# Altium schematic symbol library Schlib1.SchLib: 49 symbols
Pins are listed as number, name and electrical type; pins without a type are passive.

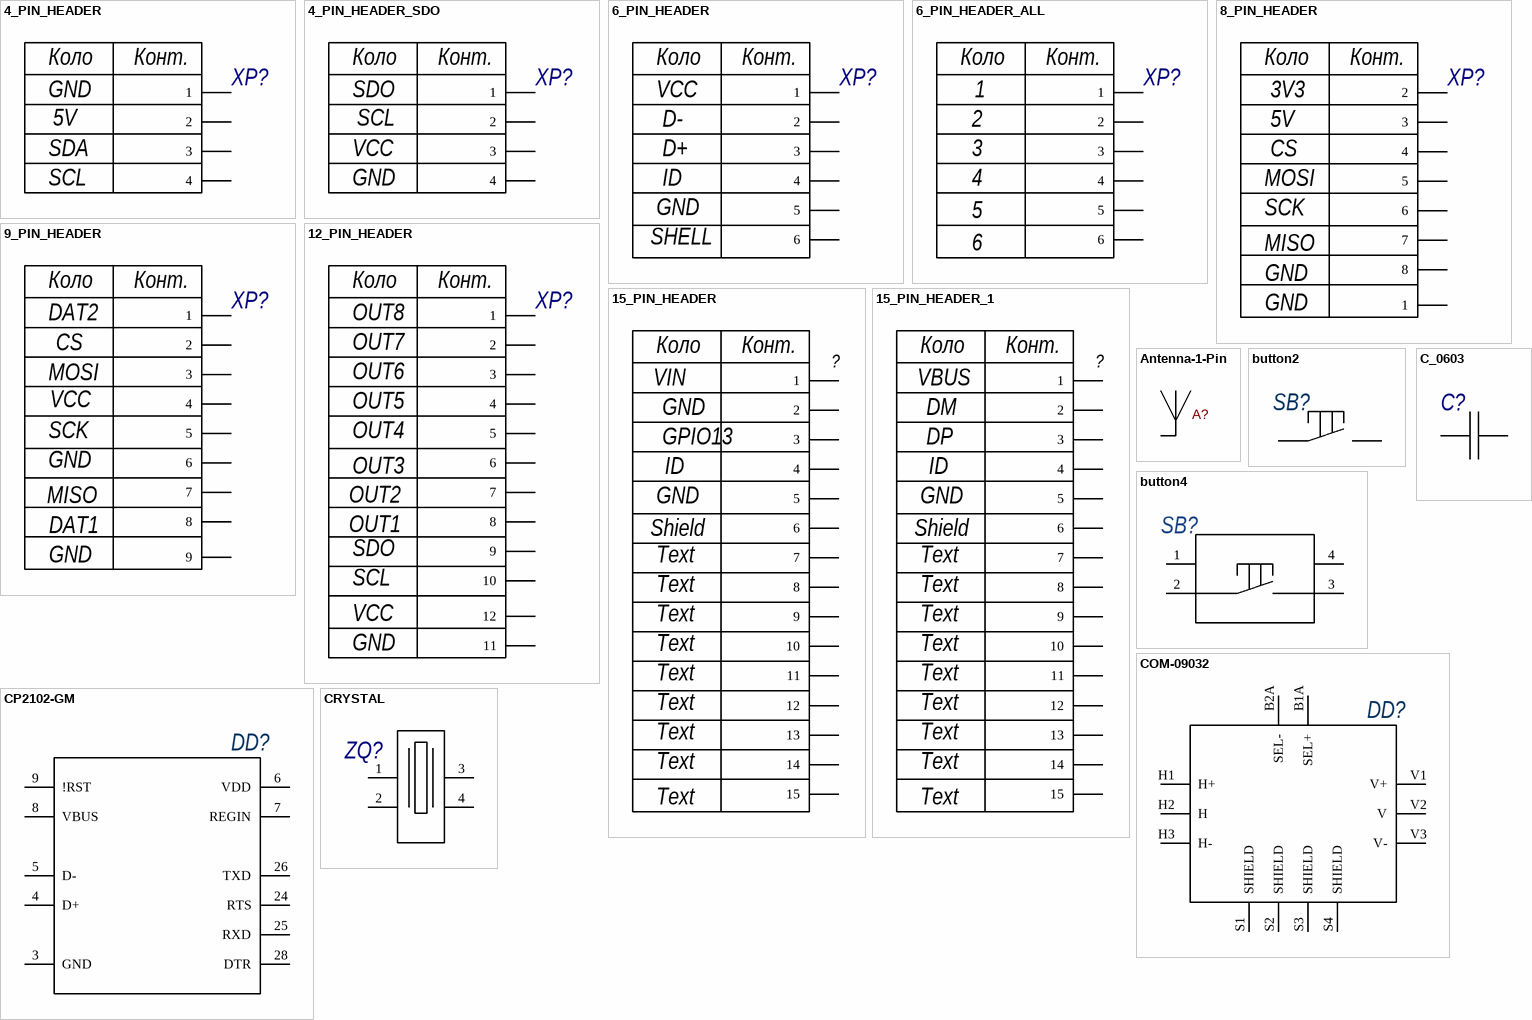
[diagram p0: symbols 4_PIN_HEADER to CRYSTAL]

## 4_PIN_HEADER
designator XP?, comment TS-104-T-A Samtec Inc.  (value not drawn)
CN3; Name: TS-104-T-A; Manufacturer: Samtec Inc.
footprint xp4
pins: 1, 2, 3, 4
text: Коло; Конт.; GND; 5V; SDA; SCL

## 4_PIN_HEADER_SDO
designator XP?, comment TS-104-T-A Samtec Inc.  (value not drawn)
CN3; Name: TS-104-T-A; Manufacturer: Samtec Inc.
footprint xp4
pins: 1, 2, 3, 4
text: Коло; Конт.; SDO; SCL; VCC; GND

## 6_PIN_HEADER
designator XP?, comment TD-103-T-A Samtec Inc.  (value not drawn)
5075BMR-05-SM; Name: TD-103-T-A; Manufacturer: Samtec Inc.
footprint xp6
pins: 1, 2, 3, 4, 5, 6
text: Коло; Конт.; VCC; D-; D+; ID; GND; SHELL

## 6_PIN_HEADER_ALL
designator XP?, comment TD-103-T-A Samtec Inc.  (value not drawn)
Header6; Name: TD-103-T-A; Manufacturer: Samtec Inc.
footprint xp6
pins: 1, 2, 3, 4, 5, 6
text: Коло; Конт.

## 8_PIN_HEADER
designator XP?, comment TS-111-T-AA Samtec Inc.  (value not drawn)
475900001; Name: TS-111-T-AA; Manufacturer: Samtec Inc.
footprint xp8 (Footprint not found)
pins: 1, 2, 3, 4, 5, 6, 7, 8
text: Коло; Конт.; 3V3; 5V; CS; MOSI; SCK; MISO; GND

## 9_PIN_HEADER
designator XP?, comment TS-111-T-AA Samtec Inc.  (value not drawn)
475900001; Name: TS-111-T-AA; Manufacturer: Samtec Inc.
footprint xp9 (Footprint not found)
pins: 1, 2, 3, 4, 5, 6, 7, 8, 9
text: Коло; Конт.; DAT2; CS; MOSI; VCC; SCK; GND; MISO; DAT1

## 12_PIN_HEADER
designator XP?, comment TS-111-T-AA Samtec Inc.  (value not drawn)
475900001; Name: TS-111-T-AA; Manufacturer: Samtec Inc.
footprint xp12 (Footprint not found)
pins: 1, 2, 3, 4, 5, 6, 7, 8, 9, 10, 11, 12
text: Коло; Конт.; OUT8; OUT7; OUT6; OUT5; OUT4; OUT3; OUT2; OUT1; SDO; SCL; VCC; GND

## 15_PIN_HEADER
designator ?, comment * *  (value not drawn)
Name: *; Manufacturer: *
pins: 1, 2, 3, 4, 5, 6, 7, 8, 9, 10, 11, 12, 13, 14, 15
text: Коло; Конт.; VIN; GND; GPIO13; ID; Shield; Text

## 15_PIN_HEADER_1
designator ?, comment * *  (value not drawn)
Name: *; Manufacturer: *
pins: 1, 2, 3, 4, 5, 6, 7, 8, 9, 10, 11, 12, 13, 14, 15
text: Коло; Конт.; VBUS; DM; DP; ID; GND; Shield; Text

## Antenna-1-Pin
designator A?  (net tie)
SMA, Through-Hole
footprint PCB_ANT
pins: 1

## button2
designator SB?
Manufacturer: Würth Elektronik; Name: 430182043816
footprint button2
pins: 1, 2

## button4
designator SB?
Manufacturer: Würth Elektronik; Name: 430182043816
footprint button4
pins: 1, 2, 3, 4

## C_0603
designator C?
Manufacturer: TDK Corporation; Temp_Coef: X7R; Voltage: 50 В; Tolerance: 10%; Package: 0603
footprint C_0603
pins: 1, 2

## COM-09032
designator DD?, comment 1568-09032-ND  (value not drawn)
Thumb Joystick; Manufacturer: SparkFun Electronics; Part Number: COM-09032; Availability: Unavailable
footprint XDCR_COM-09032
pins: B1A SEL+, B2A SEL-, H1 H+, H2 H, H3 H-, S1 SHIELD, S2 SHIELD, S3 SHIELD, S4 SHIELD, V1 V+, V2 V, V3 V-

## CP2102-GM
designator DD?  (value not drawn)
USB 2.0 to UART, 28-QFN (5x5); Manufacturer: Silicon Labs; Package: QFN-28 Silicon Labs; Part Number: CP2102-GM
footprint QFN-28_5x5mm
pins: 3 GND, 4 D+, 5 D-, 6 VDD, 7 REGIN, 8 VBUS, 9 !RST, 24 RTS, 25 RXD, 26 TXD, 28 DTR

## CRYSTAL
designator ZQ?
Manufacturer: Abracon LLC; Name: ABS25-32.768KHZ-6-T
footprint O2_768KHZ
pins: 1, 2, 3, 4

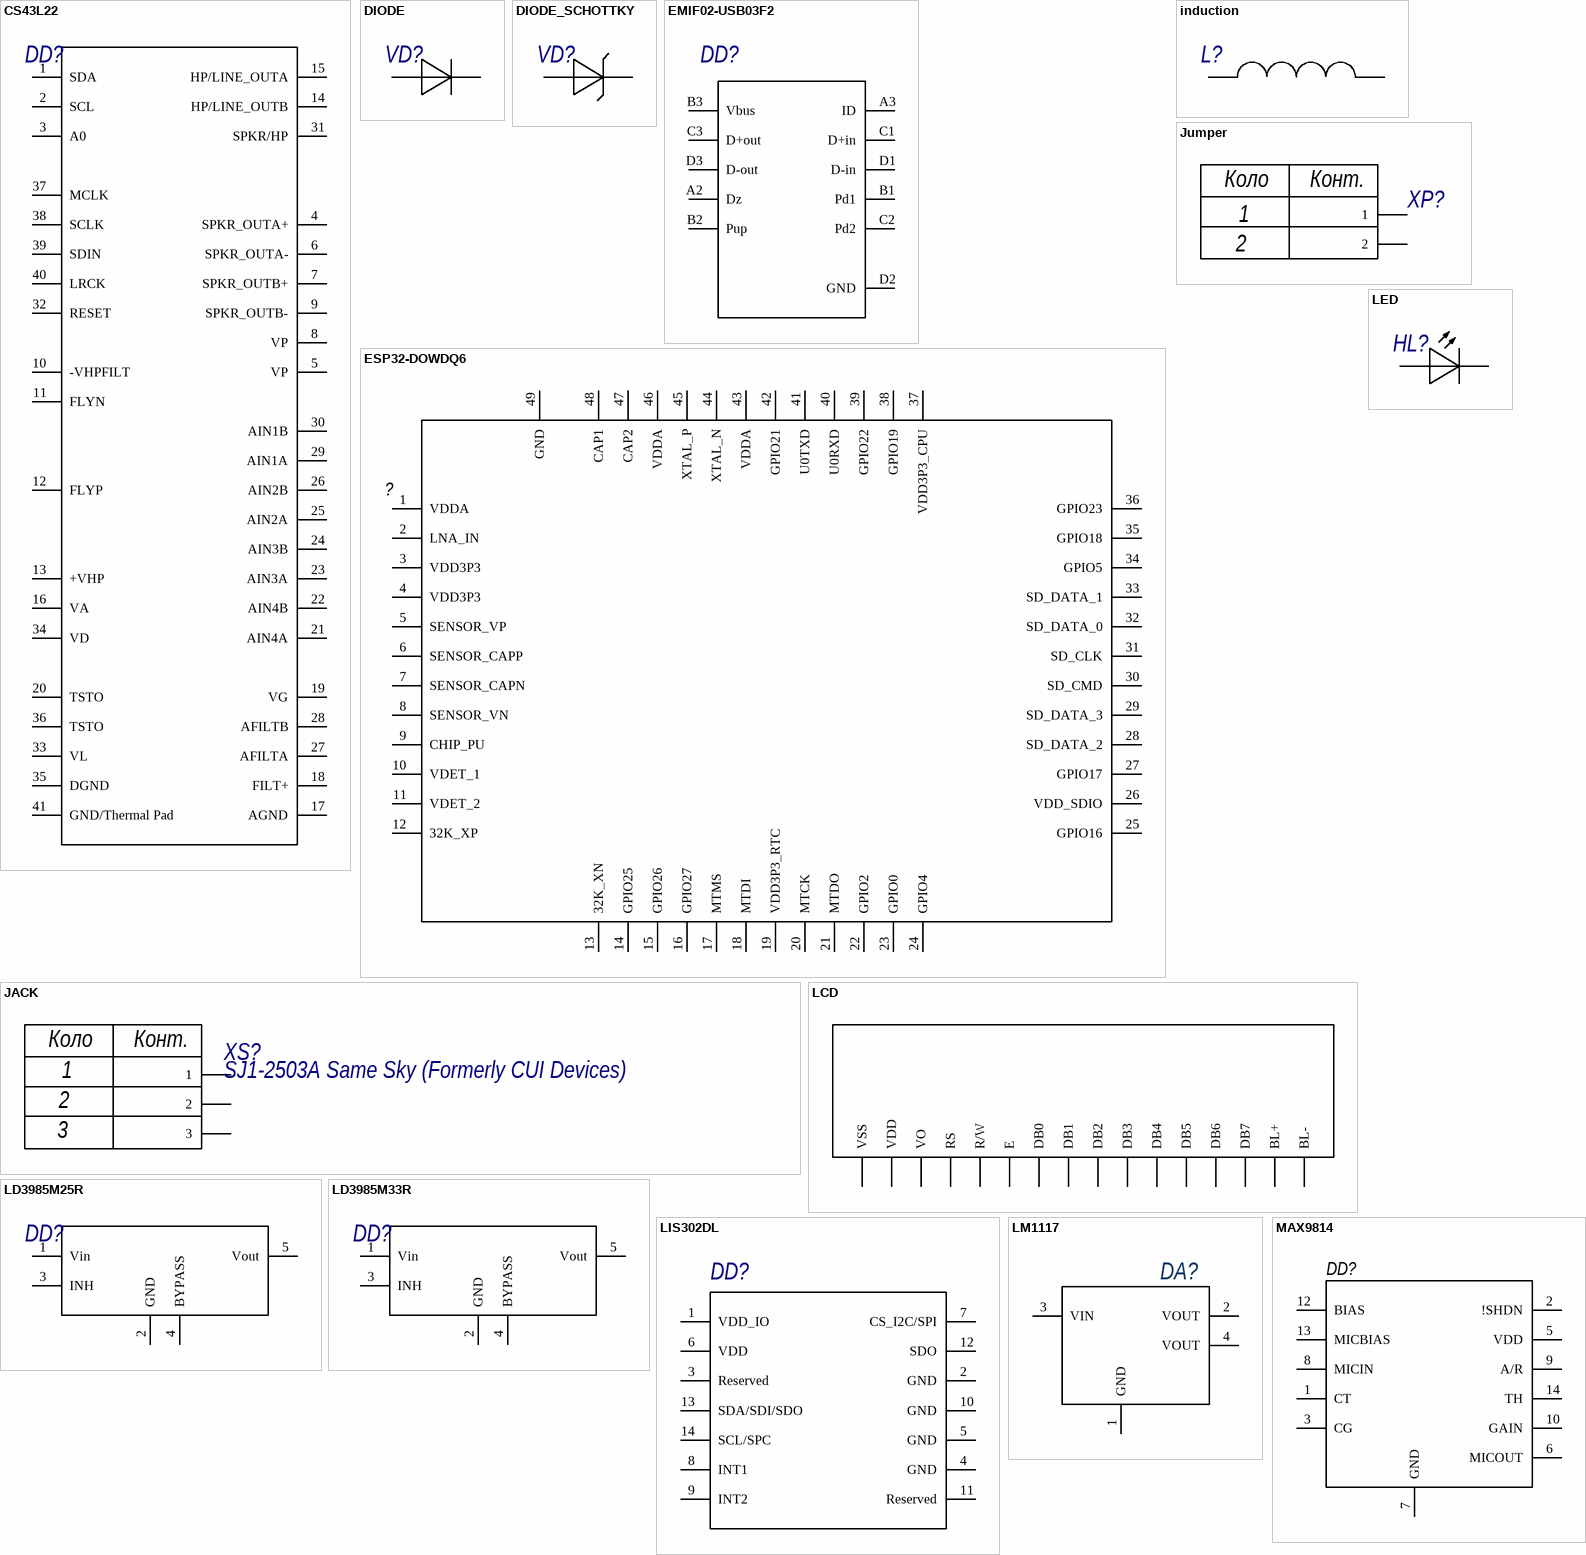
[diagram p1: symbols CS43L22 to MAX9814]

## CS43L22
designator DD?
Manufaturer: Cirrus Logic Inc.; Name: CS43L22
footprint CS43L22
pins: 1 SDA, 2 SCL, 3 A0, 4 SPKR_OUTA+, 5 VP, 6 SPKR_OUTA-, 7 SPKR_OUTB+, 8 VP, 9 SPKR_OUTB-, 10 -VHPFILT, 11 FLYN, 12 FLYP, 13 +VHP, 14 HP/LINE_OUTB, 15 HP/LINE_OUTA, 16 VA, 17 AGND, 18 FILT+, 19 VG, 20 TSTO, 21 AIN4A, 22 AIN4B, 23 AIN3A, 24 AIN3B, 25 AIN2A, 26 AIN2B, 27 AFILTA, 28 AFILTB, 29 AIN1A, 30 AIN1B, 31 SPKR/HP, 32 RESET, 33 VL, 34 VD, 35 DGND, 36 TSTO, 37 MCLK, 38 SCLK, 39 SDIN, 40 LRCK, 41 GND/Thermal Pad

## DIODE
designator VD?
Manufacturer: STMicroelectronics; Name: BAT60JFILM
footprint BAT60JFILM
pins: 1, 2

## DIODE_SCHOTTKY
designator VD?
Manufacturer: STMicroelectronics
footprint BAT60JFILM
pins: 1, 2

## EMIF02-USB03F2
designator DD?
Manufacturer: STMicroelectronics; Name: EMIF02-USB03F2
footprint EMIF02-USB03F2
pins: A2 Dz, A3 ID, B1 Pd1, B2 Pup, B3 Vbus, C1 D+in, C2 Pd2, C3 D+out, D1 D-in, D2 GND, D3 D-out

## ESP32-DOWDQ6
designator ?, comment * *  (value not drawn)
Name: *; Manufacturer: *
footprint ESP
pins: 1 VDDA, 2 LNA_IN, 3 VDD3P3, 4 VDD3P3, 5 SENSOR_VP, 6 SENSOR_CAPP, 7 SENSOR_CAPN, 8 SENSOR_VN, 9 CHIP_PU, 10 VDET_1, 11 VDET_2, 12 32K_XP, 13 32K_XN, 14 GPIO25, 15 GPIO26, 16 GPIO27, 17 MTMS, 18 MTDI, 19 VDD3P3_RTC, 20 MTCK, 21 MTDO, 22 GPIO2, 23 GPIO0, 24 GPIO4, 25 GPIO16, 26 VDD_SDIO, 27 GPIO17, 28 SD_DATA_2, 29 SD_DATA_3, 30 SD_CMD, 31 SD_CLK, 32 SD_DATA_0, 33 SD_DATA_1, 34 GPIO5, 35 GPIO18, 36 GPIO23, 37 VDD3P3_CPU, 38 GPIO19, 39 GPIO22, 40 U0RXD, 41 U0TXD, 42 GPIO21, 43 VDDA, 44 XTAL_N, 45 XTAL_P, 46 VDDA, 47 CAP2, 48 CAP1, 49 GND

## induction
designator L?
Manufacturer: TAI-TECH Advanced Electronics Co., Ltd.; Name: FCM 1608KF-601T03
footprint FB0603 (Footprint not found)
pins: 1, 2

## JACK
designator XS?, comment SJ1-2503A Same Sky (Formerly CUI Devices)
Name: SJ1-2503A; Manufacturer: Same Sky (Formerly CUI Devices)
footprint XS_AUDIO
pins: 1, 2, 3
text: Коло; Конт.

## Jumper
designator XP?, comment TS-104-T-A-1 Samtec Inc.  (value not drawn)
Name: TS-104-T-A-1; Manufacturer: Samtec Inc.
footprint xp2
pins: 1, 2
text: Коло; Конт.

## LCD
designator *  (value not drawn)
Manufacturer: Shenzhen Eone Electronics; Name: 2004A-v1.1
footprint lcd
pins: 1 VSS, 2 VDD, 3 VO, 4 RS, 5 R/W, 6 E, 7 DB0, 8 DB1, 9 DB2, 10 DB3, 11 DB4, 12 DB5, 13 DB6, 14 DB7, 15 BL+, 16 BL-

## LD3985M25R
designator DD?
Manufacturer: STMicroelectronics; Name: LD3985M25R
footprint LD3985M25R
pins: 1 Vin, 2 GND, 3 INH, 4 BYPASS, 5 Vout

## LD3985M33R
designator DD?
Manufacturer: STMicroelectronics; Name: LD3985M33R
footprint LD3985M33R
pins: 1 Vin, 2 GND, 3 INH, 4 BYPASS, 5 Vout

## LED
designator HL?
Manufacturer: Cree LED; Name: XPEBFR-LS-0000-00A01
footprint LED
pins: 1, 2

## LIS302DL
designator DD?
Name: LIS302DL; Manufacturer: *
footprint LIS302DL
pins: 1 VDD_IO, 2 GND, 3 Reserved, 4 GND, 5 GND, 6 VDD, 7 CS_I2C/SPI, 8 INT1, 9 INT2, 10 GND, 11 Reserved, 12 SDO, 13 SDA/SDI/SDO, 14 SCL/SPC

## LM1117
designator DA?  (value not drawn)
LDO, SOT-223; Manufacturer: Texas Instruments; Part Number: LM1117; Package: SOT-223
footprint SOT-223
pins: 1 GND, 2 VOUT, 3 VIN, 4 VOUT

## MAX9814
designator DD?, comment MAX9814ETD+T Analog Devices Inc./Maxim Integrated  (value not drawn)
Name: MAX9814ETD+T; Manufacturer: Analog Devices Inc./Maxim Integrated
footprint MAX9814
pins: 1 CT, 2 !SHDN, 3 CG, 5 VDD, 6 MICOUT, 7 GND, 8 MICIN, 9 A/R, 10 GAIN, 12 BIAS, 13 MICBIAS, 14 TH

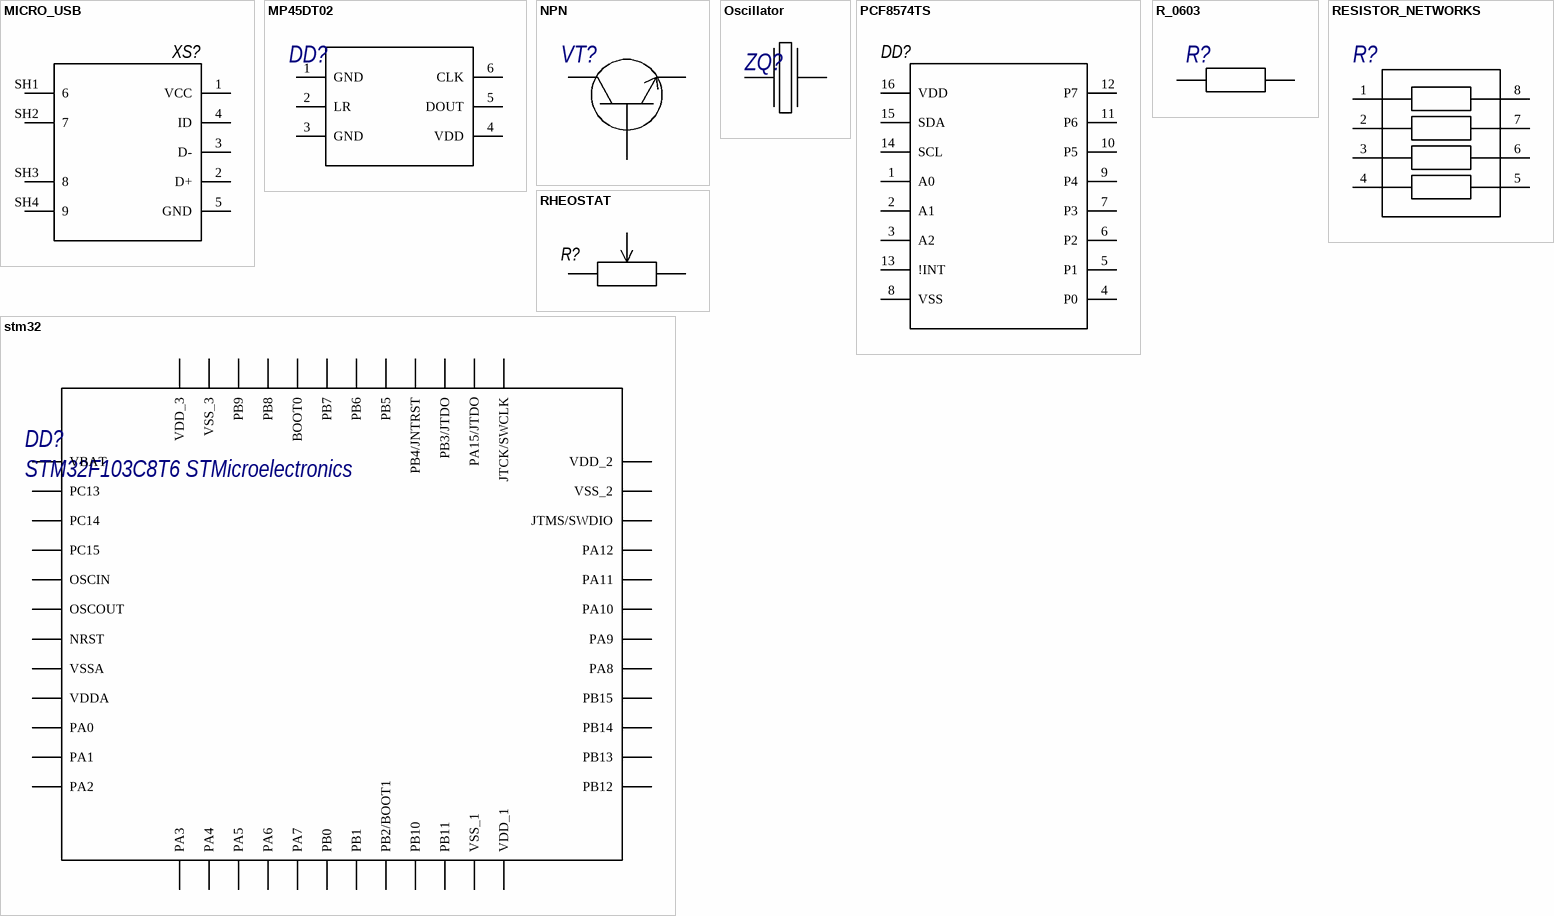
[diagram p2: symbols MICRO_USB to stm32]

## MICRO_USB
designator XS?, comment 10104110-0001LF Amphenol ICC (FCI)  (value not drawn)
Name: 10104110-0001LF; Manufacturer: Amphenol ICC (FCI)
footprint MICRO_USB
pins: 1 VCC, 2 D+, 3 D-, 4 ID, 5 GND, SH1 6, SH2 7, SH3 8, SH4 9

## MP45DT02
designator DD?
Manufacturer: STMicroelectronics; Name: MP45DT02
footprint MP45DT02
pins: 1 GND, 2 LR, 3 GND, 4 VDD, 5 DOUT, 6 CLK

## NPN
designator VT?
Manufacturer: onsemi; Name: MMBTA06LT1G
footprint SOT-23
pins: 1, 2, 3

## Oscillator
designator ZQ?
Manufacturer: ECS Inc.; Name: ECS-2520MV-080-CN-TR
footprint Oscillator
pins: 1, 2

## PCF8574TS
designator DD?, comment PCF8574T NXP USA Inc.  (value not drawn)
Name: PCF8574T; Manufacturer: NXP USA Inc.
footprint PCF8574TS (Footprint not found)
pins: 1 A0, 2 A1, 3 A2, 4 P0, 5 P1, 6 P2, 7 P3, 8 VSS, 9 P4, 10 P5, 11 P6, 12 P7, 13 !INT, 14 SCL, 15 SDA, 16 VDD

## R_0603
designator R?, comment 0603 0 В  1% Keystone Electronics  (value not drawn)
Power: 0 В; Package: 0603; Tolerance: 1%; Manufacturer: Keystone Electronics
footprint R0_0603
pins: 1, 2

## RESISTOR_NETWORKS
designator R?, comment 0603 0 В  1% Keystone Electronics  (value not drawn)
Power: 0 В; Package: 0603; Tolerance: 1%; Manufacturer: Keystone Electronics
footprint RESISTOR_NETWORKS
pins: 1, 2, 3, 4, 5, 6, 7, 8

## RHEOSTAT
designator R?
Manufacturer: Bourns Inc.; Name: PTV09A-2015U-B103
footprint RHEOSTAT
pins: 1, 2, 3

## stm32
designator DD?, comment STM32F103C8T6 STMicroelectronics
Name: STM32F103C8T6; Manufacturer: STMicroelectronics
footprint STM32F103C8T6
pins: 1 VBAT, 2 PC13, 3 PC14, 4 PC15, 5 OSCIN, 6 OSCOUT, 7 NRST, 8 VSSA, 9 VDDA, 10 PA0, 11 PA1, 12 PA2, 13 PA3, 14 PA4, 15 PA5, 16 PA6, 17 PA7, 18 PB0, 19 PB1, 20 PB2/BOOT1, 21 PB10, 22 PB11, 23 VSS_1, 24 VDD_1, 25 PB12, 26 PB13, 27 PB14, 28 PB15, 29 PA8, 30 PA9, 31 PA10, 32 PA11, 33 PA12, 34 JTMS/SWDIO, 35 VSS_2, 36 VDD_2, 37 JTCK/SWCLK, 38 PA15/JTDO, 39 PB3/JTDO, 40 PB4/JNTRST, 41 PB5, 42 PB6, 43 PB7, 44 BOOT0, 45 PB8, 46 PB9, 47 VSS_3, 48 VDD_3

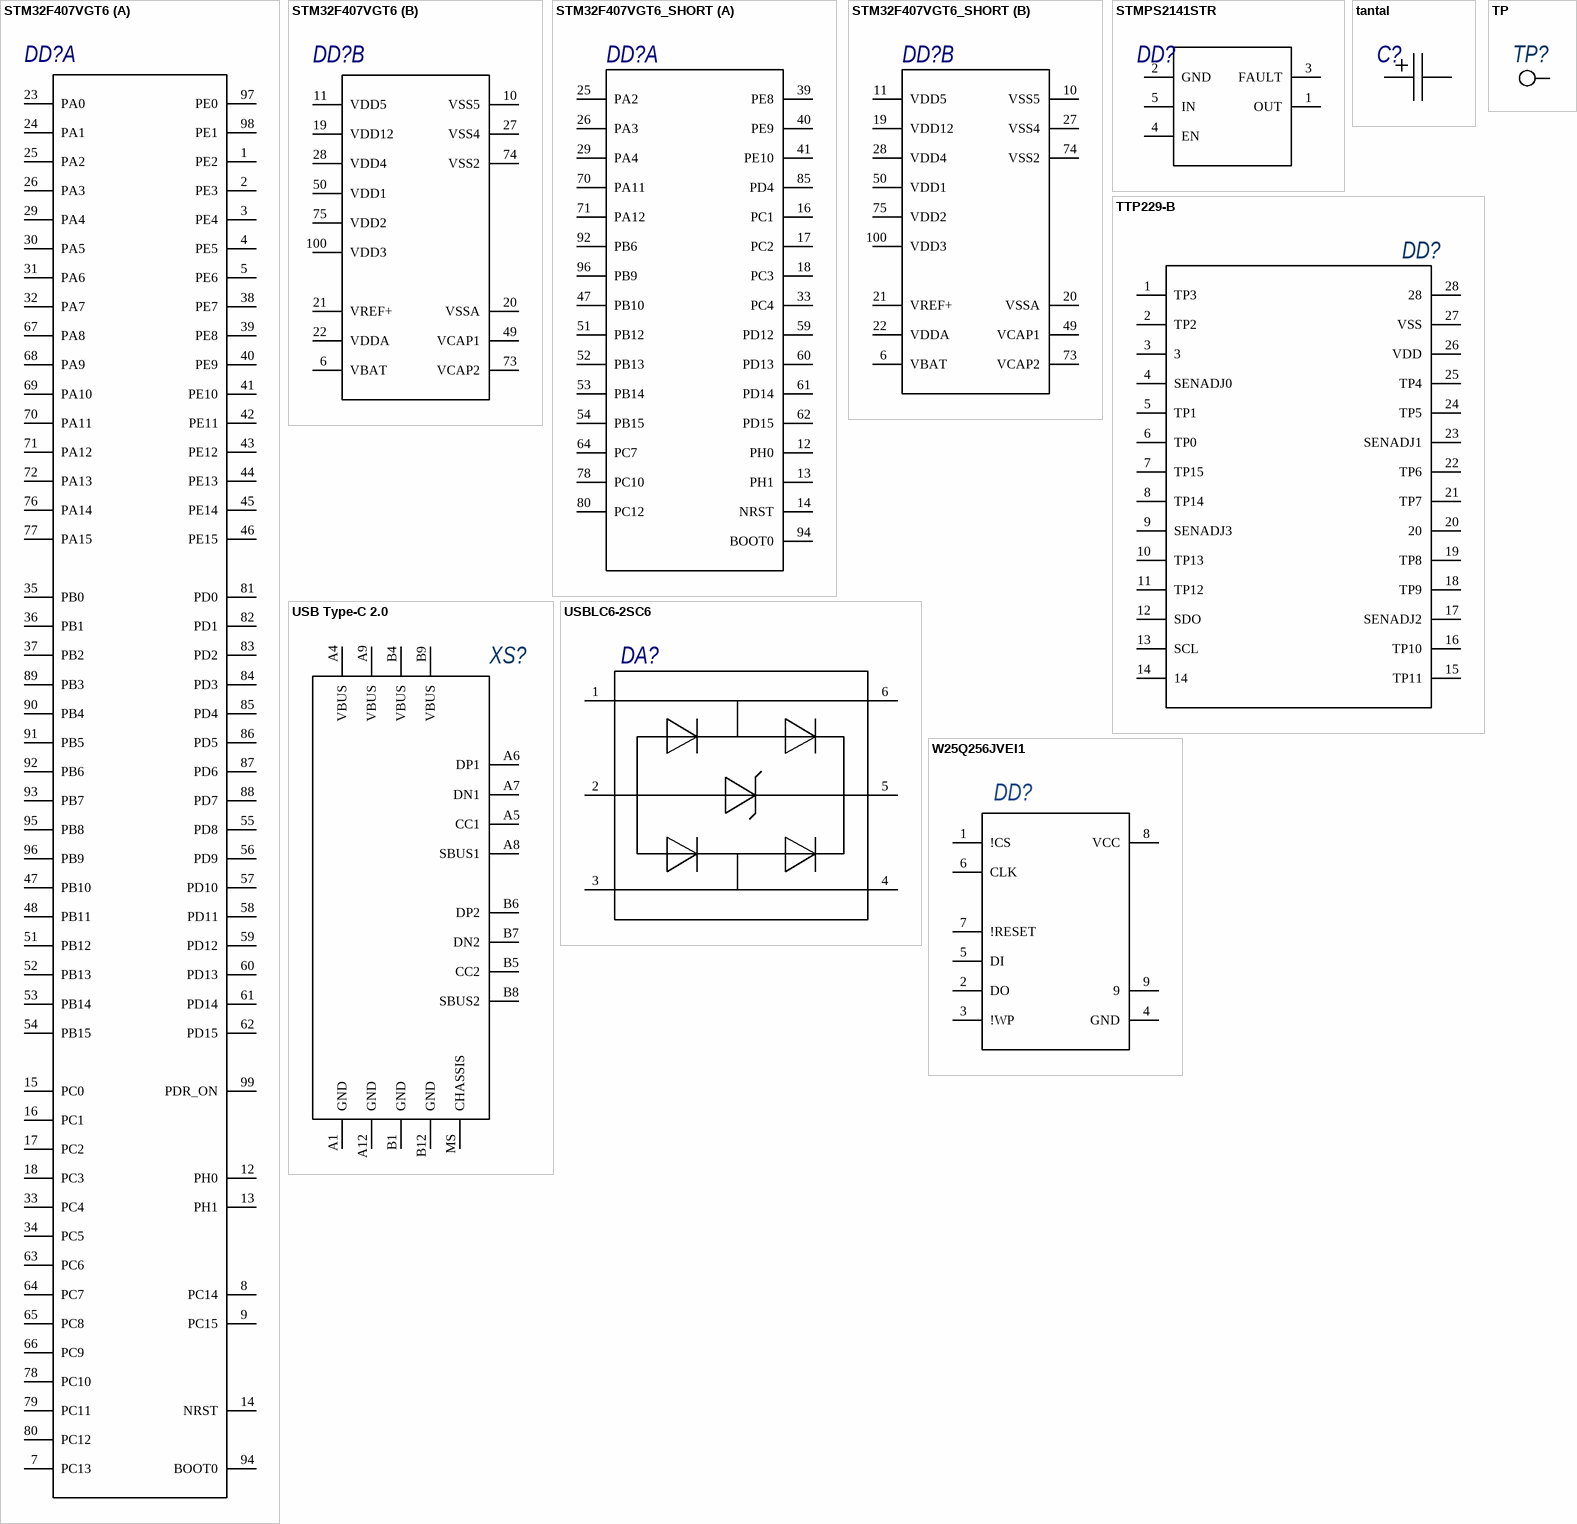
[diagram p3: symbols STM32F407VGT6 to W25Q256JVEI1]

## STM32F407VGT6
designator DD?
Manufacturer: STMicroelectronics; Name: STM32F407VGT6
footprint STM32F407VGT6
part A pins: 1 PE2, 2 PE3, 3 PE4, 4 PE5, 5 PE6, 7 PC13, 8 PC14, 9 PC15, 12 PH0, 13 PH1, 14 NRST, 15 PC0, 16 PC1, 17 PC2, 18 PC3, 23 PA0, 24 PA1, 25 PA2, 26 PA3, 29 PA4, 30 PA5, 31 PA6, 32 PA7, 33 PC4, 34 PC5, 35 PB0, 36 PB1, 37 PB2, 38 PE7, 39 PE8, 40 PE9, 41 PE10, 42 PE11, 43 PE12, 44 PE13, 45 PE14, 46 PE15, 47 PB10, 48 PB11, 51 PB12, 52 PB13, 53 PB14, 54 PB15, 55 PD8, 56 PD9, 57 PD10, 58 PD11, 59 PD12, 60 PD13, 61 PD14, 62 PD15, 63 PC6, 64 PC7, 65 PC8, 66 PC9, 67 PA8, 68 PA9, 69 PA10, 70 PA11, 71 PA12, 72 PA13, 76 PA14, 77 PA15, 78 PC10, 79 PC11, 80 PC12, 81 PD0, 82 PD1, 83 PD2, 84 PD3, 85 PD4, 86 PD5, 87 PD6, 88 PD7, 89 PB3, 90 PB4, 91 PB5, 92 PB6, 93 PB7, 94 BOOT0, 95 PB8, 96 PB9, 97 PE0, 98 PE1, 99 PDR_ON
part B pins: 6 VBAT, 10 VSS5, 11 VDD5, 19 VDD12, 20 VSSA, 21 VREF+, 22 VDDA, 27 VSS4, 28 VDD4, 49 VCAP1, 50 VDD1, 73 VCAP2, 74 VSS2, 75 VDD2, 100 VDD3

## STM32F407VGT6_SHORT
designator DD?
Manufacturer: STMicroelectronics; Name: STM32F407VGT6
footprint STM32F407VGT6
part A pins: 12 PH0, 13 PH1, 14 NRST, 16 PC1, 17 PC2, 18 PC3, 25 PA2, 26 PA3, 29 PA4, 33 PC4, 39 PE8, 40 PE9, 41 PE10, 47 PB10, 51 PB12, 52 PB13, 53 PB14, 54 PB15, 59 PD12, 60 PD13, 61 PD14, 62 PD15, 64 PC7, 70 PA11, 71 PA12, 78 PC10, 80 PC12, 85 PD4, 92 PB6, 94 BOOT0, 96 PB9
part B pins: 6 VBAT, 10 VSS5, 11 VDD5, 19 VDD12, 20 VSSA, 21 VREF+, 22 VDDA, 27 VSS4, 28 VDD4, 49 VCAP1, 50 VDD1, 73 VCAP2, 74 VSS2, 75 VDD2, 100 VDD3

## STMPS2141STR
designator DD?
Manufacturer: STMicroelectronics; Name: STMPS2141STR
footprint STMPS2141STR
pins: 1 OUT, 2 GND, 3 FAULT, 4 EN, 5 IN

## tantal
designator C?
Manufacturer: KEMET; Voltage: 20 В; Tolerance: 10%; Value: 1 мкФ; Temp_Coef: -; Package: 1206
footprint C_tantal
pins: 1, 2

## TP
designator TP?  (no BOM)
Test point 1.25mm. THT
footprint PAD-1.25mm
pins: 1

## TTP229-B
designator DD?, comment CP2102-GM  (value not drawn)
Manufacturer: Tontek Design Technology; Part Number: TTP229-B; Package: 28-SSOP
footprint 28-SSOP (Footprint not found)
pins: 1 TP3, 2 TP2, 3, 4 SENADJ0, 5 TP1, 6 TP0, 7 TP15, 8 TP14, 9 SENADJ3, 10 TP13, 11 TP12, 12 SDO, 13 SCL, 14, 15 TP11, 16 TP10, 17 SENADJ2, 18 TP9, 19 TP8, 20, 21 TP7, 22 TP6, 23 SENADJ1, 24 TP5, 25 TP4, 26 VDD, 27 VSS, 28

## USB Type-C 2.0
designator XS?, comment UJ20-C-H-G-SMT-TR  (value not drawn)
Conn USB 2.0 Type C RCP 16 POS 0.85mm Solder RA Thru-Hole 16 Terminal 1 Port T/R; Manufacturer: Same Sky; Part Number: UJ20-C-H-G-SMT-TR
footprint SAMESKY_UJ20-C-H-G-SMT-1-P16-TR; pin to pad A1>B1_A12 A4>A4_B9 A9>B4_A9 A12>A1_B12 B1>A1_B12 B4>B4_A9 B9>A4_B9 B12>B1_A12
pins: A1 GND, A4 VBUS, A5 CC1, A6 DP1, A7 DN1, A8 SBUS1, A9 VBUS, A12 GND, B1 GND, B4 VBUS, B5 CC2, B6 DP2, B7 DN2, B8 SBUS2, B9 VBUS, B12 GND, MS CHASSIS

## USBLC6-2SC6
designator DA?
17V Clamp 5A (8/20Âµs) Ipp Tvs Diode Surface Mount, SOT-23-6; Manufacturer: STMicroelectronics; Name: USBLC6-2SC6
footprint SOT-23-6L
pins: 1, 2, 3, 4, 5, 6

## W25Q256JVEI1
designator DD?, comment W25Q32FVSSIG  (value not drawn)
FLASH - NOR Memory IC 256Mb SPI - Quad I/O, QPI 133 MHz 8-WSON; Manufacturer: Winbond Electronics; Package: SOIC-8; Part Number: W25Q32FVSSIG
footprint W25QxxxJVEIQ-127P800X80_MED (WSON, 8-Leads, Body 6,00x8,00mm, Pitch 1,27mm, Thermal Pad 4,30x3,40mm, IPC Medium Density)
pins: 1 !CS, 2 DO, 3 !WP, 4 GND, 5 DI, 6 CLK, 7 !RESET, 8 VCC, 9